# EAGLE library part FIDO1100-PQF208 (library Innovasic_FIDO)
fido1100 Controller, QFP-208 package
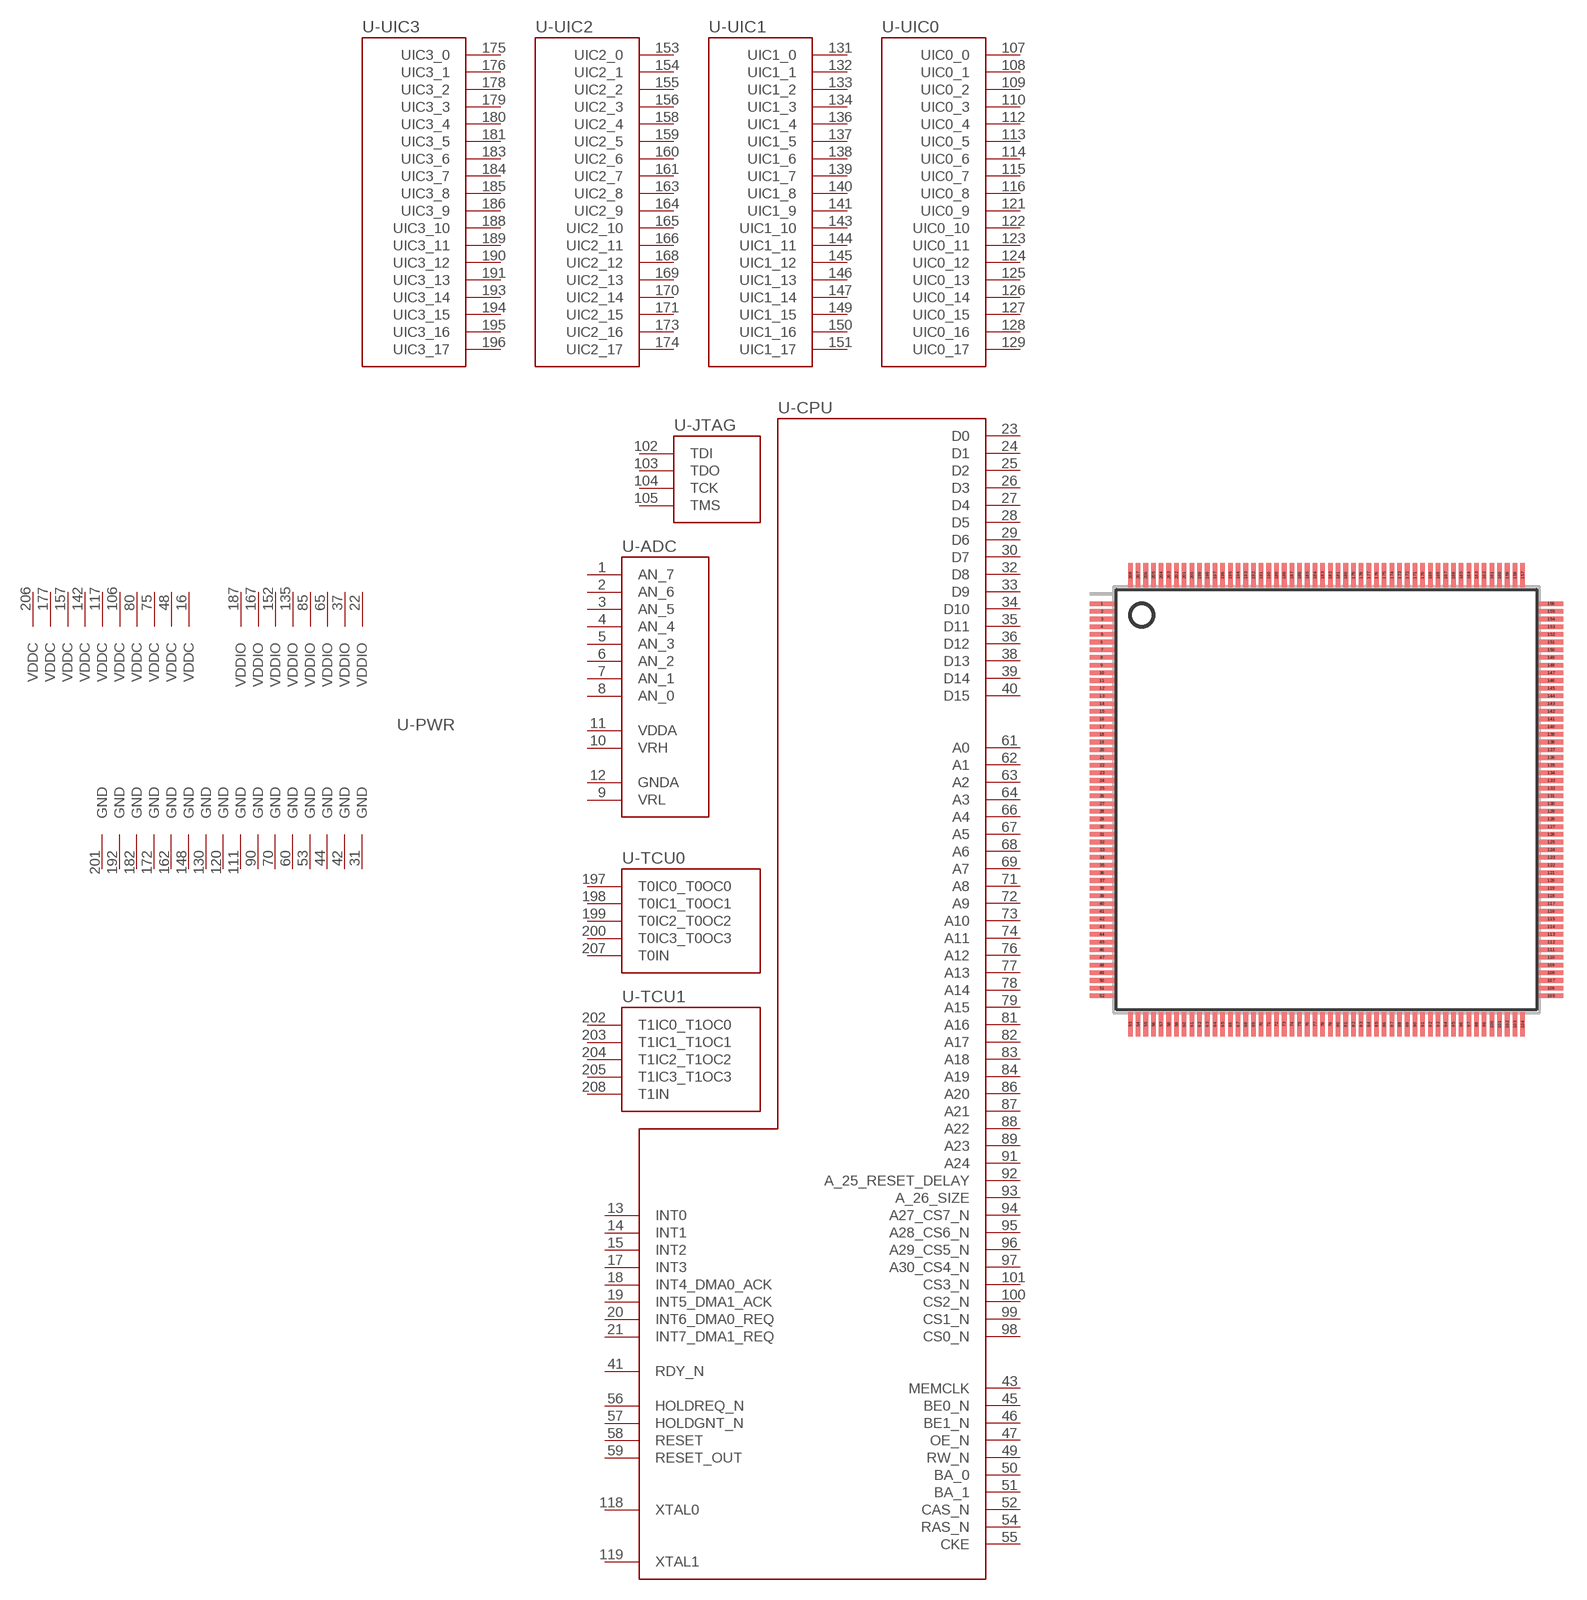
[diagram p0: symbol with the pads of QFP208-28X28MM; footprint QFP208-28X28MM]

Designator prefix -; gates -CPU=CPU -ADC=ADC -JTAG=JTAG -PWR=PWR-QFP -TCU0=TCU0 -TCU1=TCU1 -UIC0=UIC0 -UIC1=UIC1 -UIC2=UIC2 -UIC3=UIC3

## FIDO1100-PQF208-PQF208  [QFP208-28X28MM]
1  -ADC:AN_7  in
2  -ADC:AN_6  in
3  -ADC:AN_5  in
4  -ADC:AN_4  in
5  -ADC:AN_3  in
6  -ADC:AN_2  in
7  -ADC:AN_1  in
8  -ADC:AN_0  in
9  -ADC:VRL  in
10  -ADC:VRH  in
11  -ADC:VDDA  pwr
12  -ADC:GNDA  pwr
13  -CPU:INT0  in
14  -CPU:INT1  in
15  -CPU:INT2  in
16  -PWR:VDDC  pwr
17  -CPU:INT3  in
18  -CPU:INT4_DMA0_ACK
19  -CPU:INT5_DMA1_ACK
20  -CPU:INT6_DMA0_REQ  in
21  -CPU:INT7_DMA1_REQ  in
22  -PWR:VDDIO  pwr
23  -CPU:D0
24  -CPU:D1
25  -CPU:D2
26  -CPU:D3
27  -CPU:D4
28  -CPU:D5
29  -CPU:D6
30  -CPU:D7
31  -PWR:GND  pwr
32  -CPU:D8
33  -CPU:D9
34  -CPU:D10
35  -CPU:D11
36  -CPU:D12
37  -PWR:VDDIO  pwr
38  -CPU:D13
39  -CPU:D14
40  -CPU:D15
41  -CPU:RDY_N  in
42  -PWR:GND  pwr
43  -CPU:MEMCLK  out
44  -PWR:GND  pwr
45  -CPU:BE0_N  out
46  -CPU:BE1_N  out
47  -CPU:OE_N  out
48  -PWR:VDDC  pwr
49  -CPU:RW_N  out
50  -CPU:BA_0  out
51  -CPU:BA_1  out
52  -CPU:CAS_N  out
53  -PWR:GND  pwr
54  -CPU:RAS_N  out
55  -CPU:CKE  out
56  -CPU:HOLDREQ_N  in
57  -CPU:HOLDGNT_N  out
58  -CPU:RESET  in
59  -CPU:RESET_OUT  out
60  -PWR:GND  pwr
61  -CPU:A0  out
62  -CPU:A1  out
63  -CPU:A2  out
64  -CPU:A3  out
65  -PWR:VDDIO  pwr
66  -CPU:A4  out
67  -CPU:A5  out
68  -CPU:A6  out
69  -CPU:A7  out
70  -PWR:GND  pwr
71  -CPU:A8  out
72  -CPU:A9  out
73  -CPU:A10  out
74  -CPU:A11  out
75  -PWR:VDDC  pwr
76  -CPU:A12  out
77  -CPU:A13  out
78  -CPU:A14  out
79  -CPU:A15  out
80  -PWR:VDDC  pwr
81  -CPU:A16  out
82  -CPU:A17  out
83  -CPU:A18  out
84  -CPU:A19  out
85  -PWR:VDDIO  pwr
86  -CPU:A20  out
87  -CPU:A21  out
88  -CPU:A22  out
89  -CPU:A23  out
90  -PWR:GND  pwr
91  -CPU:A24  out
92  -CPU:A_25_RESET_DELAY  pas
93  -CPU:A_26_SIZE  pas
94  -CPU:A27_CS7_N  out
95  -CPU:A28_CS6_N  out
96  -CPU:A29_CS5_N  out
97  -CPU:A30_CS4_N  out
98  -CPU:CS0_N  out
99  -CPU:CS1_N  out
100  -CPU:CS2_N  out
101  -CPU:CS3_N  out
102  -JTAG:TDI  in
103  -JTAG:TDO  out
104  -JTAG:TCK  in
105  -JTAG:TMS  in
106  -PWR:VDDC  pwr
107  -UIC0:UIC0_0
108  -UIC0:UIC0_1
109  -UIC0:UIC0_2
110  -UIC0:UIC0_3
111  -PWR:GND  pwr
112  -UIC0:UIC0_4
113  -UIC0:UIC0_5
114  -UIC0:UIC0_6
115  -UIC0:UIC0_7
116  -UIC0:UIC0_8
117  -PWR:VDDC  pwr
118  -CPU:XTAL0  pas
119  -CPU:XTAL1  pas
120  -PWR:GND  pwr
121  -UIC0:UIC0_9
122  -UIC0:UIC0_10
123  -UIC0:UIC0_11
124  -UIC0:UIC0_12
125  -UIC0:UIC0_13
126  -UIC0:UIC0_14
127  -UIC0:UIC0_15
128  -UIC0:UIC0_16
129  -UIC0:UIC0_17
130  -PWR:GND  pwr
131  -UIC1:UIC1_0
132  -UIC1:UIC1_1
133  -UIC1:UIC1_2
134  -UIC1:UIC1_3
135  -PWR:VDDIO  pwr
136  -UIC1:UIC1_4
137  -UIC1:UIC1_5
138  -UIC1:UIC1_6
139  -UIC1:UIC1_7
140  -UIC1:UIC1_8
141  -UIC1:UIC1_9
142  -PWR:VDDC  pwr
143  -UIC1:UIC1_10
144  -UIC1:UIC1_11
145  -UIC1:UIC1_12
146  -UIC1:UIC1_13
147  -UIC1:UIC1_14
148  -PWR:GND  pwr
149  -UIC1:UIC1_15
150  -UIC1:UIC1_16
151  -UIC1:UIC1_17
152  -PWR:VDDIO  pwr
153  -UIC2:UIC2_0
154  -UIC2:UIC2_1
155  -UIC2:UIC2_2
156  -UIC2:UIC2_3
157  -PWR:VDDC  pwr
158  -UIC2:UIC2_4
159  -UIC2:UIC2_5
160  -UIC2:UIC2_6
161  -UIC2:UIC2_7
162  -PWR:GND  pwr
163  -UIC2:UIC2_8
164  -UIC2:UIC2_9
165  -UIC2:UIC2_10
166  -UIC2:UIC2_11
167  -PWR:VDDIO  pwr
168  -UIC2:UIC2_12
169  -UIC2:UIC2_13
170  -UIC2:UIC2_14
171  -UIC2:UIC2_15
172  -PWR:GND  pwr
173  -UIC2:UIC2_16
174  -UIC2:UIC2_17
175  -UIC3:UIC3_0
176  -UIC3:UIC3_1
177  -PWR:VDDC  pwr
178  -UIC3:UIC3_2
179  -UIC3:UIC3_3
180  -UIC3:UIC3_4
181  -UIC3:UIC3_5
182  -PWR:GND  pwr
183  -UIC3:UIC3_6
184  -UIC3:UIC3_7
185  -UIC3:UIC3_8
186  -UIC3:UIC3_9
187  -PWR:VDDIO  pwr
188  -UIC3:UIC3_10
189  -UIC3:UIC3_11
190  -UIC3:UIC3_12
191  -UIC3:UIC3_13
192  -PWR:GND  pwr
193  -UIC3:UIC3_14
194  -UIC3:UIC3_15
195  -UIC3:UIC3_16
196  -UIC3:UIC3_17
197  -TCU0:T0IC0_T0OC0
198  -TCU0:T0IC1_T0OC1
199  -TCU0:T0IC2_T0OC2
200  -TCU0:T0IC3_T0OC3
201  -PWR:GND  pwr
202  -TCU1:T1IC0_T1OC0
203  -TCU1:T1IC1_T1OC1
204  -TCU1:T1IC2_T1OC2
205  -TCU1:T1IC3_T1OC3
206  -PWR:VDDC  pwr
207  -TCU0:T0IN  in
208  -TCU1:T1IN  in

## Footprint QFP208-28X28MM (pad centres in mm)
QFP208 shrink quad flat pack, square 0.5mm pitch, 28 x 28 mm
smd 1.6 x 0.3: 1 -14.6,12.75; 2 -14.6,12.25; 3 -14.6,11.75; 4 -14.6,11.25; 5 -14.6,10.75; 6 -14.6,10.25; 7 -14.6,9.75; 8 -14.6,9.25; 9 -14.6,8.75; 10 -14.6,8.25; 11 -14.6,7.75; 12 -14.6,7.25; 13 -14.6,6.75; 14 -14.6,6.25; 15 -14.6,5.75; 16 -14.6,5.25; 17 -14.6,4.75; 18 -14.6,4.25; 19 -14.6,3.75; 20 -14.6,3.25; 21 -14.6,2.75; 22 -14.6,2.25; 23 -14.6,1.75; 24 -14.6,1.25; 25 -14.6,0.75; 26 -14.6,0.25; 27 -14.6,-0.25; 28 -14.6,-0.75; 29 -14.6,-1.25; 30 -14.6,-1.75; 31 -14.6,-2.25; 32 -14.6,-2.75; 33 -14.6,-3.25; 34 -14.6,-3.75; 35 -14.6,-4.25; 36 -14.6,-4.75; 37 -14.6,-5.25; 38 -14.6,-5.75; 39 -14.6,-6.25; 40 -14.6,-6.75; 41 -14.6,-7.25; 42 -14.6,-7.75; 43 -14.6,-8.25; 44 -14.6,-8.75; 45 -14.6,-9.25; 46 -14.6,-9.75; 47 -14.6,-10.25; 48 -14.6,-10.75; 49 -14.6,-11.25; 50 -14.6,-11.75; 51 -14.6,-12.25; 52 -14.6,-12.75; 105 14.6,-12.75; 106 14.6,-12.25; 107 14.6,-11.75; 108 14.6,-11.25; 109 14.6,-10.75; 110 14.6,-10.25; 111 14.6,-9.75; 112 14.6,-9.25; 113 14.6,-8.75; 114 14.6,-8.25; 115 14.6,-7.75; 116 14.6,-7.25; 117 14.6,-6.75; 118 14.6,-6.25; 119 14.6,-5.75; 120 14.6,-5.25; 121 14.6,-4.75; 122 14.6,-4.25; 123 14.6,-3.75; 124 14.6,-3.25; 125 14.6,-2.75; 126 14.6,-2.25; 127 14.6,-1.75; 128 14.6,-1.25; 129 14.6,-0.75; 130 14.6,-0.25; 131 14.6,0.25; 132 14.6,0.75; 133 14.6,1.25; 134 14.6,1.75; 135 14.6,2.25; 136 14.6,2.75; 137 14.6,3.25; 138 14.6,3.75; 139 14.6,4.25; 140 14.6,4.75; 141 14.6,5.25; 142 14.6,5.75; 143 14.6,6.25; 144 14.6,6.75; 145 14.6,7.25; 146 14.6,7.75; 147 14.6,8.25; 148 14.6,8.75; 149 14.6,9.25; 150 14.6,9.75; 151 14.6,10.25; 152 14.6,10.75; 153 14.6,11.25; 154 14.6,11.75; 155 14.6,12.25; 156 14.6,12.75
smd 0.3 x 1.6: 53 -12.75,-14.6; 54 -12.25,-14.6; 55 -11.75,-14.6; 56 -11.25,-14.6; 57 -10.75,-14.6; 58 -10.25,-14.6; 59 -9.75,-14.6; 60 -9.25,-14.6; 61 -8.75,-14.6; 62 -8.25,-14.6; 63 -7.75,-14.6; 64 -7.25,-14.6; 65 -6.75,-14.6; 66 -6.25,-14.6; 67 -5.75,-14.6; 68 -5.25,-14.6; 69 -4.75,-14.6; 70 -4.25,-14.6; 71 -3.75,-14.6; 72 -3.25,-14.6; 73 -2.75,-14.6; 74 -2.25,-14.6; 75 -1.75,-14.6; 76 -1.25,-14.6; 77 -0.75,-14.6; 78 -0.25,-14.6; 79 0.25,-14.6; 80 0.75,-14.6; 81 1.25,-14.6; 82 1.75,-14.6; 83 2.25,-14.6; 84 2.75,-14.6; 85 3.25,-14.6; 86 3.75,-14.6; 87 4.25,-14.6; 88 4.75,-14.6; 89 5.25,-14.6; 90 5.75,-14.6; 91 6.25,-14.6; 92 6.75,-14.6; 93 7.25,-14.6; 94 7.75,-14.6; 95 8.25,-14.6; 96 8.75,-14.6; 97 9.25,-14.6; 98 9.75,-14.6; 99 10.25,-14.6; 100 10.75,-14.6; 101 11.25,-14.6; 102 11.75,-14.6; 103 12.25,-14.6; 104 12.75,-14.6; 157 12.75,14.6; 158 12.25,14.6; 159 11.75,14.6; 160 11.25,14.6; 161 10.75,14.6; 162 10.25,14.6; 163 9.75,14.6; 164 9.25,14.6; 165 8.75,14.6; 166 8.25,14.6; 167 7.75,14.6; 168 7.25,14.6; 169 6.75,14.6; 170 6.25,14.6; 171 5.75,14.6; 172 5.25,14.6; 173 4.75,14.6; 174 4.25,14.6; 175 3.75,14.6; 176 3.25,14.6; 177 2.75,14.6; 178 2.25,14.6; 179 1.75,14.6; 180 1.25,14.6; 181 0.75,14.6; 182 0.25,14.6; 183 -0.25,14.6; 184 -0.75,14.6; 185 -1.25,14.6; 186 -1.75,14.6; 187 -2.25,14.6; 188 -2.75,14.6; 189 -3.25,14.6; 190 -3.75,14.6; 191 -4.25,14.6; 192 -4.75,14.6; 193 -5.25,14.6; 194 -5.75,14.6; 195 -6.25,14.6; 196 -6.75,14.6; 197 -7.25,14.6; 198 -7.75,14.6; 199 -8.25,14.6; 200 -8.75,14.6; 201 -9.25,14.6; 202 -9.75,14.6; 203 -10.25,14.6; 204 -10.75,14.6; 205 -11.25,14.6; 206 -11.75,14.6; 207 -12.25,14.6; 208 -12.75,14.6